# EAGLE library part 750313734 (library Passives)
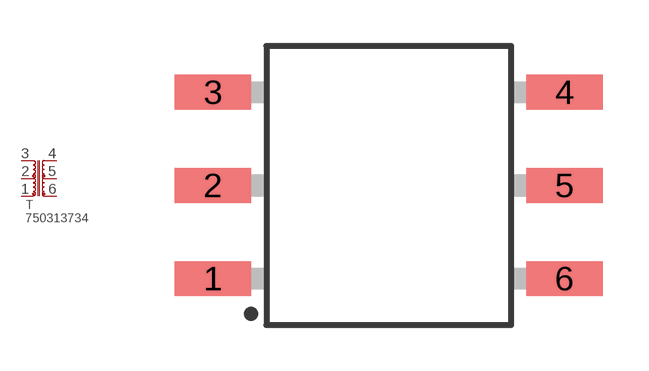
[diagram p10: symbol with the pads of 750313734; footprint 750313734]

Designator prefix T

## 750313734  [750313734]
1  1
2  2
3  3
4  4
5  5
6  6

## Footprint 750313734 (pad centres in mm)
smd 2.5 x 1.14: 1 -5.75,-3.05; 2 -5.75,0; 3 -5.75,3.05; 4 5.75,3.05; 5 5.75,0; 6 5.75,-3.05